# Altium footprint library CE_16MMX21.5MM.PcbLib: 1 footprints
Each footprint in its own frame and in the unit in brackets; x right, y up, seen from the top. Pads: shape width x height; smd on the part's side, far side on the other; paste and mask are expansions set on the pad; w line width, h text height; cw(c..) or ccw(c..) is an arc to the next point about the centre after c.
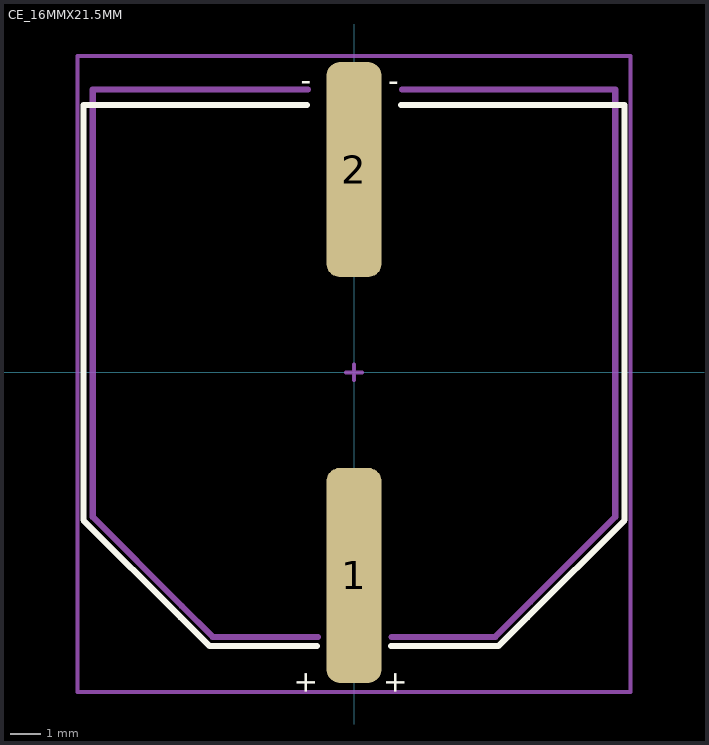
[diagram p0: the footprint, top view; thin cyan lines are the x and y axes]

## CE_16MMX21.5MM [mm]
pads (2):
  rrect50% 1.8x7 smd mask+0.05: 1(0,-6.6) 2(0,6.6)
Top Overlay:
  lines w0.2: -1.53,8.7 -3.404,8.704 -8.8,8.704 -8.8,-4.8 -5.633,-7.967 -4.7,-8.9 -1.2,-8.9 ; 1.2,-8.9 4.7,-8.9 5.633,-7.967 8.8,-4.8 8.8,8.704 3.404,8.704 1.53,8.7
  text "-" at -1.73,9.16 h0.7
  text "-" at 1.12,9.15 h0.7
  text "+" at -1.86,-9.68 h0.7
  text "+" at 1.05,-9.68 h0.7
Top Assembly:
  lines w0.2: -1.5,9.2 -3.374,9.204 -8.5,9.204 -8.5,-4.7 -5.603,-7.597 -4.6,-8.6 -1.17,-8.6 ; 1.23,-8.6 4.6,-8.6 5.739,-7.461 ; 1.56,9.2 3.434,9.204 8.5,9.204 8.5,-4.7 5.739,-7.461 ; 5.739,-7.461 5.739,-7.461
Top Courtyard:
  lines w0.127: -0.254,0 0.254,0 ; 0,-0.254 0,0.254 ; -9,-10.4 -9,10.3 9,10.3 9,-10.4 -9,-10.4
3D body "User Library-A3D-003-00021-2.step": height 21.7, standoff 0.2, extent -8.525,-9.2 8.475,9.2